# Altium schematic symbol library SCH - POWER - LINEAR VREG - TOSHIBA TCR5RG.SchLib: 1 symbol
Pins are listed as number, name and electrical type; pins without a type are passive.

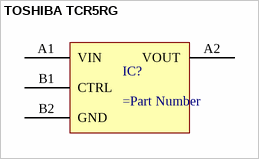
[diagram p0: symbol TOSHIBA TCR5RG]

## TOSHIBA TCR5RG
designator IC?
pins: A1 VIN, A2 VOUT, B1 CTRL, B2 GND